# Altium schematic symbol library PIC24FJ256GA106.Schlib: 1 symbol
Pins are listed as number, name and electrical type; pins without a type are passive.

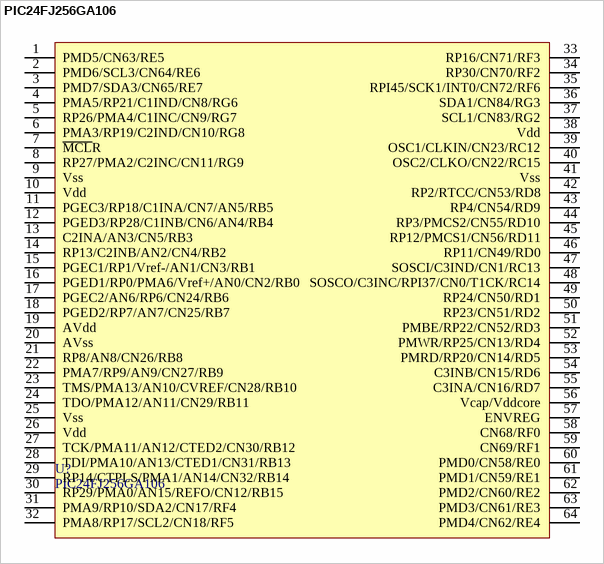
[diagram p0: symbol PIC24FJ256GA106]

## PIC24FJ256GA106
designator U?
IC, Microcontroller
pins: 1 PMD5/CN63/RE5, 2 PMD6/SCL3/CN64/RE6, 3 PMD7/SDA3/CN65/RE7, 4 PMA5/RP21/C1IND/CN8/RG6, 5 RP26/PMA4/C1INC/CN9/RG7, 6 PMA3/RP19/C2IND/CN10/RG8, 7 ~{MCL}R, 8 RP27/PMA2/C2INC/CN11/RG9, 9 Vss, 10 Vdd, 11 PGEC3/RP18/C1INA/CN7/AN5/RB5, 12 PGED3/RP28/C1INB/CN6/AN4/RB4, 13 C2INA/AN3/CN5/RB3, 14 RP13/C2INB/AN2/CN4/RB2, 15 PGEC1/RP1/Vref-/AN1/CN3/RB1, 16 PGED1/RP0/PMA6/Vref+/AN0/CN2/RB0, 17 PGEC2/AN6/RP6/CN24/RB6, 18 PGED2/RP7/AN7/CN25/RB7, 19 AVdd, 20 AVss, 21 RP8/AN8/CN26/RB8, 22 PMA7/RP9/AN9/CN27/RB9, 23 TMS/PMA13/AN10/CVREF/CN28/RB10, 24 TDO/PMA12/AN11/CN29/RB11, 25 Vss, 26 Vdd, 27 TCK/PMA11/AN12/CTED2/CN30/RB12, 28 TDI/PMA10/AN13/CTED1/CN31/RB13, 29 RP14/CTPLS/PMA1/AN14/CN32/RB14, 30 RP29/PMA0/AN15/REFO/CN12/RB15, 31 PMA9/RP10/SDA2/CN17/RF4, 32 PMA8/RP17/SCL2/CN18/RF5, 33 RP16/CN71/RF3, 34 RP30/CN70/RF2, 35 RPI45/SCK1/INT0/CN72/RF6, 36 SDA1/CN84/RG3, 37 SCL1/CN83/RG2, 38 Vdd, 39 OSC1/CLKIN/CN23/RC12, 40 OSC2/CLKO/CN22/RC15, 41 Vss, 42 RP2/RTCC/CN53/RD8, 43 RP4/CN54/RD9, 44 RP3/PMCS2/CN55/RD10, 45 RP12/PMCS1/CN56/RD11, 46 RP11/CN49/RD0, 47 SOSCI/C3IND/CN1/RC13, 48 SOSCO/C3INC/RPI37/CN0/T1CK/RC14, 49 RP24/CN50/RD1, 50 RP23/CN51/RD2, 51 PMBE/RP22/CN52/RD3, 52 PMWR/RP25/CN13/RD4, 53 PMRD/RP20/CN14/RD5, 54 C3INB/CN15/RD6, 55 C3INA/CN16/RD7, 56 Vcap/Vddcore, 57 ENVREG, 58 CN68/RF0, 59 CN69/RF1, 60 PMD0/CN58/RE0, 61 PMD1/CN59/RE1, 62 PMD2/CN60/RE2, 63 PMD3/CN61/RE3, 64 PMD4/CN62/RE4
1 alternate drawing of the same symbol